# Altium schematic symbol library Mousebite.SchLib: 1 symbol
Pins are listed as number, name and electrical type; pins without a type are passive.

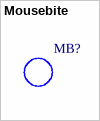
[diagram p0: symbol Mousebite]

## Mousebite
designator MB?, comment Part Number  (value not drawn)
Mousebite, 0.5 mm hole 5x, 0.3 mm spacing, 1.5 mm tool route; GRAMS Lib Spec: 2.7
footprint Mousebite (0.5 mm hole, 0.3 mm spacing, 5x, 1.5 mm diameter)